# EAGLE library part ESP12 (library mECustom)
ESP8266 ESP-12 Wi-Fi Module
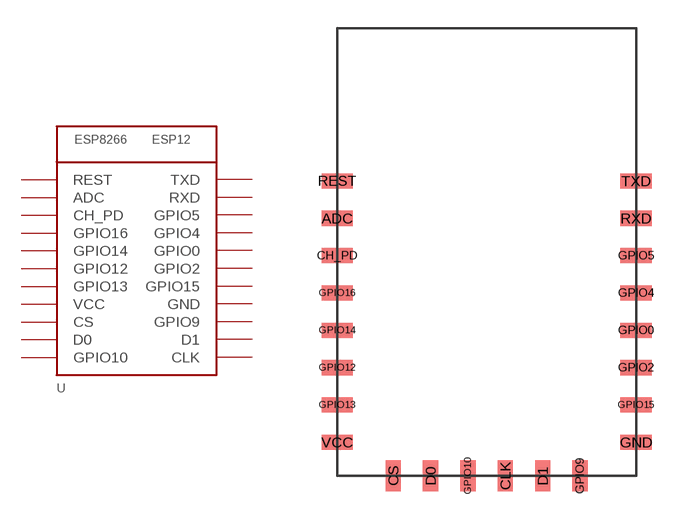
[diagram p9: symbol with the pads of ESP12; footprint ESP12]

Designator prefix -

## ESP12  [ESP12]
ADC  ADC
CH_PD  CH_PD
CLK  CLK
CS  CS
D0  D0
D1  D1
GND  GND
GPIO0  GPIO0
GPIO2  GPIO2
GPIO4  GPIO4
GPIO5  GPIO5
GPIO9  GPIO9
GPIO10  GPIO10
GPIO12  GPIO12
GPIO13  GPIO13
GPIO14  GPIO14
GPIO15  GPIO15
GPIO16  GPIO16
REST  REST
RXD  RXD
TXD  TXD
VCC  VCC

## Footprint ESP12 (pad centres in mm)
smd 1.676 x 0.813: ADC -8,1.8; CH_PD -8,-0.2; GND 8,-10.2; GPIO0 8,-4.2; GPIO2 8,-6.2; GPIO4 8,-2.2; GPIO5 8,-0.2; GPIO12 -8,-6.2; GPIO13 -8,-8.2; GPIO14 -8,-4.2; GPIO15 8,-8.2; GPIO16 -8,-2.2; REST -8,3.8; RXD 8,1.8; TXD 8,3.8; VCC -8,-10.2
smd 0.813 x 1.676: CLK 1,-12; CS -5,-12; D0 -3,-12; D1 3,-12; GPIO9 5,-12; GPIO10 -1,-12